# EAGLE library part LCD_NHD-0440AZ-FL (library custom)
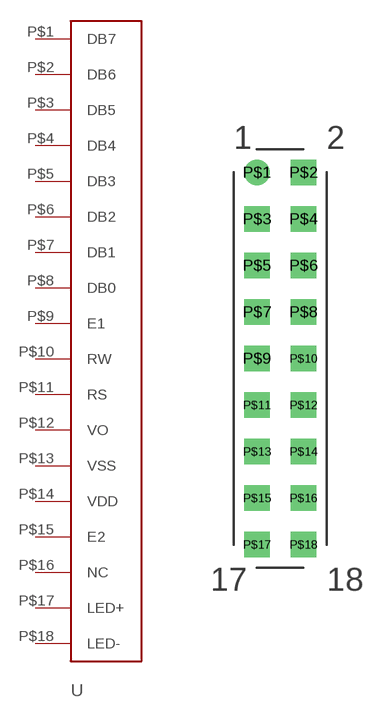
[diagram p32: symbol with the pads of HEADER09X02_.1_.1; footprint HEADER09X02_.1_.1]

Designator prefix -

## LCD_NHD-0440AZ-FL  [HEADER09X02_.1_.1]
P$1  DB7
P$2  DB6
P$3  DB5
P$4  DB4
P$5  DB3
P$6  DB2
P$7  DB1
P$8  DB0
P$9  E1
P$10  RW
P$11  RS
P$12  VO
P$13  VSS
P$14  VDD
P$15  E2
P$16  NC
P$17  LED+
P$18  LED-

## Footprint HEADER09X02_.1_.1 (pad centres in mm)
drill 0.9 round: P$1 -1.27,10.16
drill 0.9 square: P$2 1.27,10.16; P$3 -1.27,7.62; P$4 1.27,7.62; P$5 -1.27,5.08; P$6 1.27,5.08; P$7 -1.27,2.54; P$8 1.27,2.54; P$9 -1.27,0; P$10 1.27,0; P$11 -1.27,-2.54; P$12 1.27,-2.54; P$13 -1.27,-5.08; P$14 1.27,-5.08; P$15 -1.27,-7.62; P$16 1.27,-7.62; P$17 -1.27,-10.16; P$18 1.27,-10.16